# EAGLE library part MSP430FR5739 (library msp430)
MSP430FR573x Mixed-Signal Microcontrollers The Texas Instruments MSP430FR573x family of ultra-low-power microcontrollers consists of multiple devices that feature embedded FRAM nonvolatile memory, ultra-low-power 16-bit MSP430™ CPU, and different peripherals targeted for various applications. The architecture, FRAM, and peripherals, combined with seven low-power modes, are optimized to achieve extended battery life in portable and wireless sensing applications. FRAM is a new nonvolatile memory that combines the speed, flexibility, and endurance of SRAM with the stability and reliability of flash, all at lower total power consumption. Peripherals include a 10-bit ADC, a 16-channel comparator with voltage reference generation and hysteresis capabilities, three enhanced serial channels capable of I 2C, SPI, or UART protocols, an internal DMA, a hardware multiplier, an RTC, five 16-bit timers, and digital I/Os.
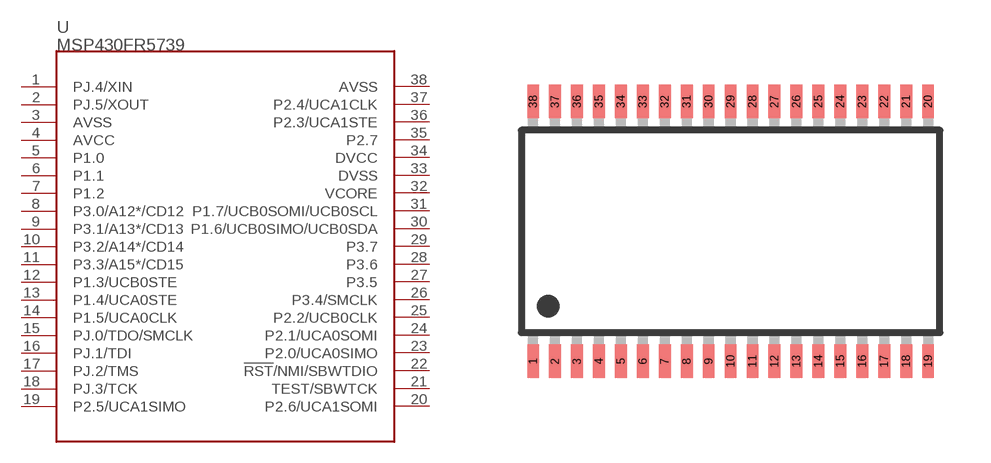
[diagram p2: symbol with the pads of TSSOP38_R-PDSO-G38-DA; footprint TSSOP38_R-PDSO-G38-DA]

Designator prefix -

## MSP430FR5739  [TSSOP38_R-PDSO-G38-DA]
1  PJ.4/XIN
2  PJ.5/XOUT
3  AVSS
4  AVCC
5  P1.0
6  P1.1
7  P1.2
8  P3.0/A12*/CD12
9  P3.1/A13*/CD13
10  P3.2/A14*/CD14
11  P3.3/A15*/CD15
12  P1.3/UCB0STE
13  P1.4/UCA0STE
14  P1.5/UCA0CLK
15  PJ.0/TDO/SMCLK
16  PJ.1/TDI
17  PJ.2/TMS
18  PJ.3/TCK
19  P2.5/UCA1SIMO
20  P2.6/UCA1SOMI
21  TEST/SBWTCK
22  !RST!/NMI/SBWTDIO
23  P2.0/UCA0SIMO
24  P2.1/UCA0SOMI
25  P2.2/UCB0CLK
26  P3.4/SMCLK
27  P3.5
28  P3.6
29  P3.7
30  P1.6/UCB0SIMO/UCB0SDA
31  P1.7/UCB0SOMI/UCB0SCL
32  VCORE
33  DVSS
34  DVCC
35  P2.7
36  P2.3/UCA1STE
37  P2.4/UCA1CLK
38  AVSS

## Footprint TSSOP38_R-PDSO-G38-DA (pad centres in mm)
TSSOP 38 DA (R-PDSO-G38) Auto generated by make-symbol-device-package-bsdl.ulp Rev. 28 Source: http://focus.ti.com/lit/ds/symlink/msp430f2274.pdf
smd 0.35 x 1: 1 -5.85,-3.85; 2 -5.2,-3.85; 3 -4.55,-3.85; 4 -3.9,-3.85; 5 -3.25,-3.85; 6 -2.6,-3.85; 7 -1.95,-3.85; 8 -1.3,-3.85; 9 -0.65,-3.85; 10 0,-3.85; 11 0.65,-3.85; 12 1.3,-3.85; 13 1.95,-3.85; 14 2.6,-3.85; 15 3.25,-3.85; 16 3.9,-3.85; 17 4.55,-3.85; 18 5.2,-3.85; 19 5.85,-3.85; 20 5.85,3.85; 21 5.2,3.85; 22 4.55,3.85; 23 3.9,3.85; 24 3.25,3.85; 25 2.6,3.85; 26 1.95,3.85; 27 1.3,3.85; 28 0.65,3.85; 29 0,3.85; 30 -0.65,3.85; 31 -1.3,3.85; 32 -1.95,3.85; 33 -2.6,3.85; 34 -3.25,3.85; 35 -3.9,3.85; 36 -4.55,3.85; 37 -5.2,3.85; 38 -5.85,3.85